# EAGLE library part PROMIESD-02 (library promiesd02)
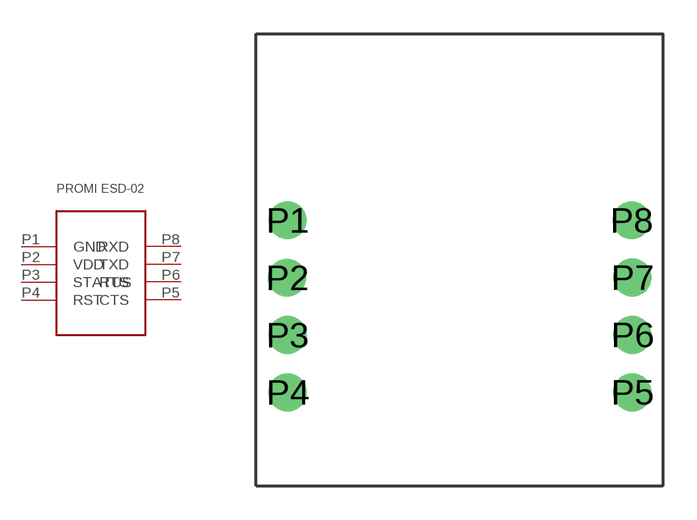
[diagram p0: symbol with the pads of PROMIESD-02; footprint PROMIESD-02]

Designator prefix -

## PROMIESD-02  [PROMIESD-02]
P1  GND
P2  VDD
P3  STATUS
P4  RST
P5  CTS
P6  RTS
P7  TXD
P8  RXD

## Footprint PROMIESD-02 (pad centres in mm)
drill 0.5 pad 1.676 round: P1 1.384,11.745; P2 1.371,9.203; P3 1.384,6.664; P4 1.391,4.13; P5 16.649,4.136; P6 16.652,6.678; P7 16.652,9.212; P8 16.612,11.745